# Altium integrated library Cypress Clocks & Buffers Clock Distribution.IntLib: 321 symbols (part 16 of 25)
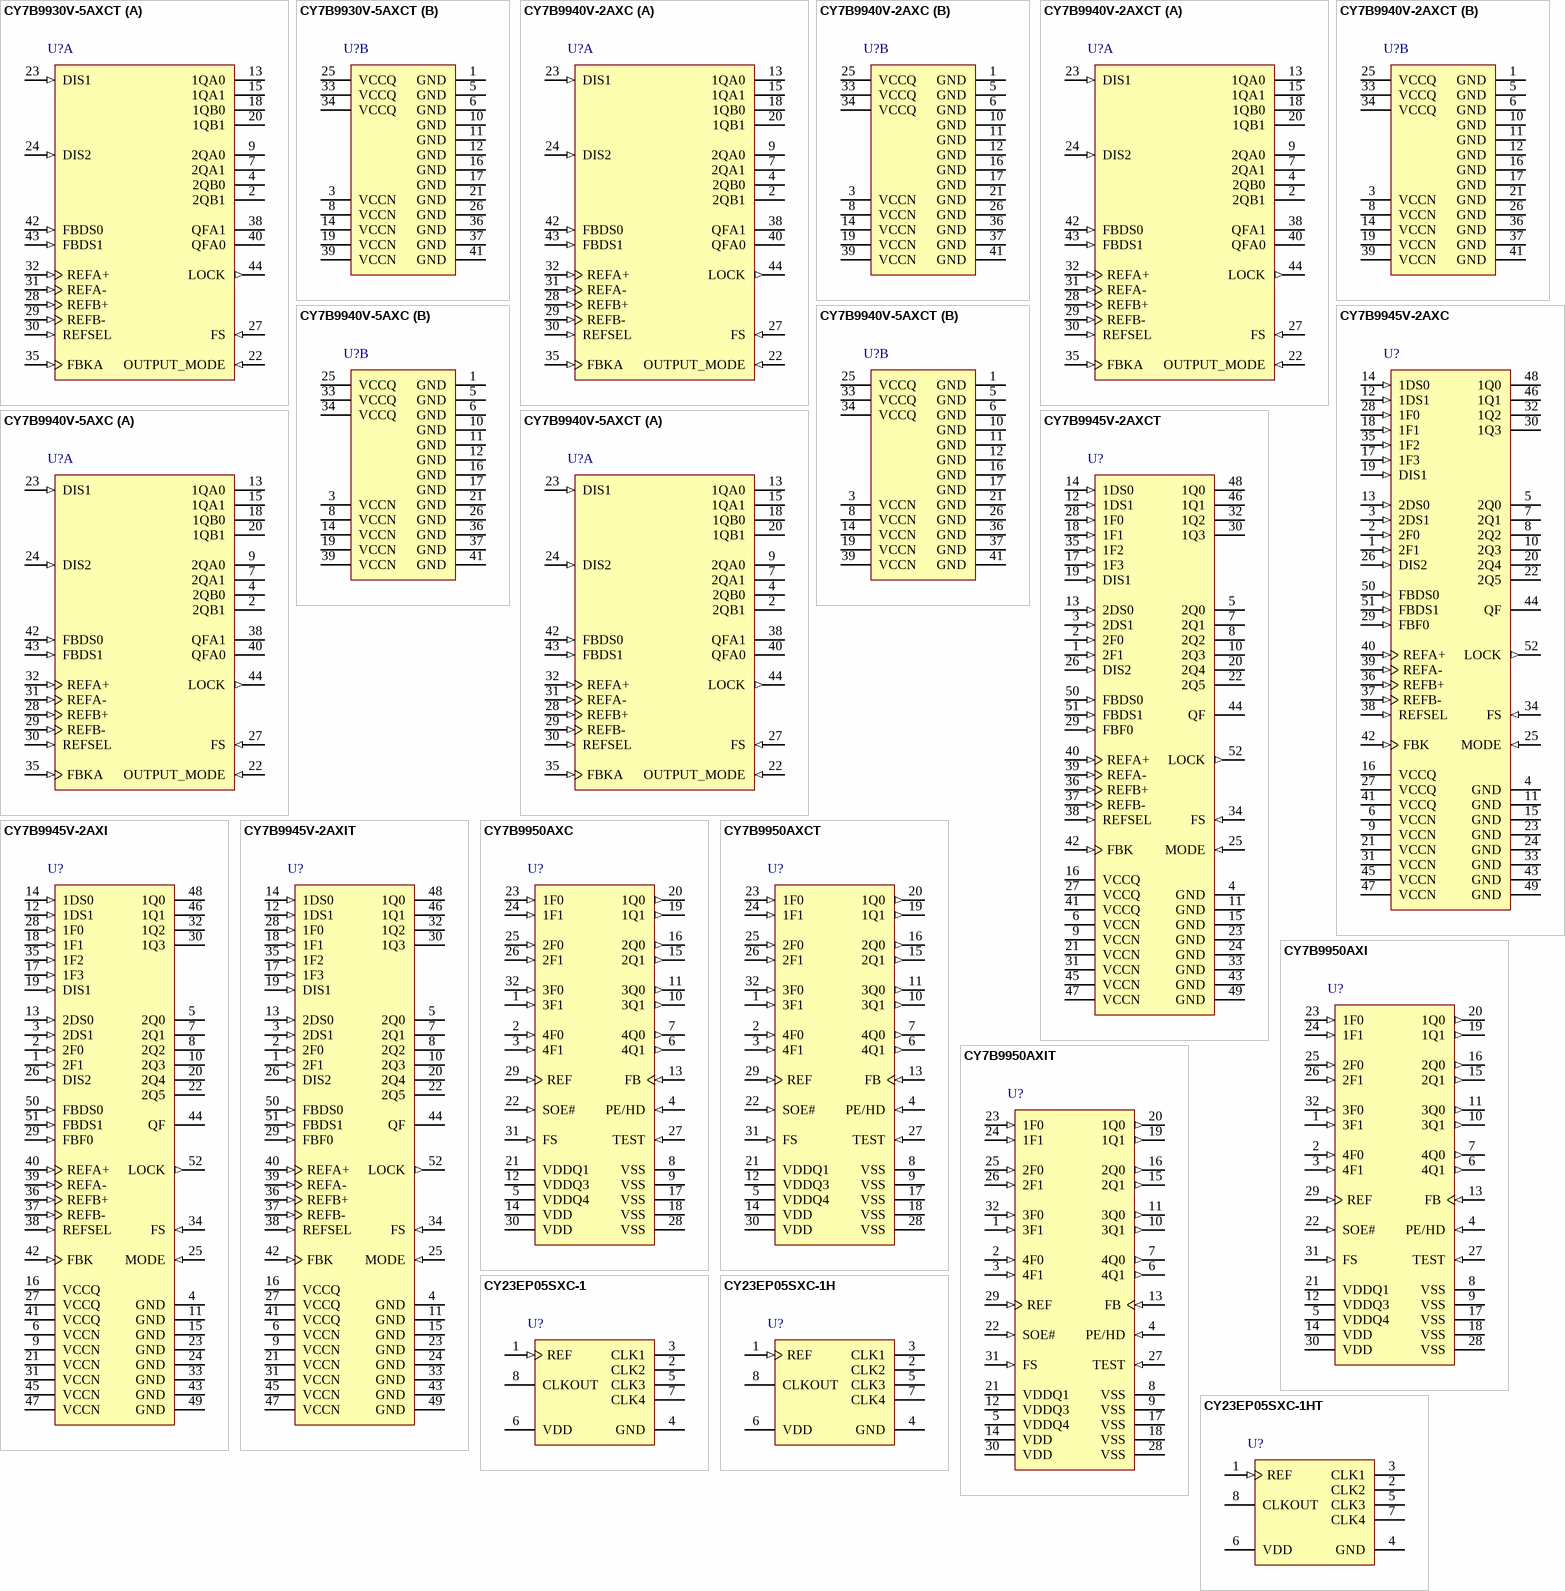
[diagram p31: symbols CY7B9930V-5AXCT to CY23EP05SXC-1HT]

## CY7B9945V-2AXCT
designator U?
High Speed Multi-Phase PLL Clock Buffer, 3.3 V, 11 Outputs, 24 to 200 MHz, 0 to 70 degC, 52-Pin TQFP (AX52), Tape and Reel; Manufacturer: Cypress; PartNumber: CY7B9945V-2AXCT; Input Frequency Max. (MHz): 200; Input Frequency Min. (MHz): 24; Max. Operating Voltage (V): 3.63; Min. Operating Voltage (V): 2.97; No. of Outputs: 11; DatasheetVersion: Rev. *K; PackageVersion: Rev. *C, 08/2012; PackageReference: AX52; PackageDescription: 52-Pin Thin Plastic Quad Flatpack, Body 10 x10 mm, Pitch 0.65 mm; Supplier 1: Digi-Key; Supplier Part Number 1: CY7B9945V-2AXCT-ND; Supplier 2: Mouser; Supplier Part Number 2: 727-CY7B9945V2AXCT; Max. Operating Temp. (degreesC): 70; Min. Operating Temp. (degreesC): 0; Output Frequency Max. (MHz): 200; Output Frequency Min. (MHz): 24; Packing: Tape and Reel; RoHS: Pb-Free; Mounting Technology: Surface Mount; ComponentLink1Description: Manufacturer URL; ComponentLink1URL: http://www.cypress.com/; ComponentLink2Description: Datasheet; ComponentLink2URL: http://www.cypress.com/?docID=48486; ComponentLink3Description: Package Specification; ComponentLink3URL: http://www.cypress.com/?docID=39099
footprint CYP-AX52-51-85131_N (QFP, 52-Leads, Body 10x10mm, Pitch 0.65mm, IPC Medium Density)
footprint CYP-AX52-51-85131_L (QFP, 52-Leads, Body 10x10mm, Pitch 0.65mm, IPC High Density)
footprint CYP-AX52-51-85131_M (QFP, 52-Leads, Body 10x10mm, Pitch 0.65mm, IPC Low Density)
pins: 1 2F1 (in) "Output Phase Function Select. Each pair determines the phase of the respective bank of outputs. See Table 3.", 2 2F0 (in) "Output Phase Function Select. Each pair determines the phase of the respective bank of outputs. See Table 3.", 3 2DS1 (in) "Output Divider Function Select. Each pair determines the divider ratio of the respective bank of outputs. See Table 4.", 4 GND (power) "Device Ground", 5 2Q0 (hiz) "Clock Outputs with Adjustable Phases and fNOM Divide Ratios. The output frequencies and phases are determined by [1:2]DS[0:1], and 1F[0:3] and 2F[0:1], respectively. See Table 3 and Table 4.", 6 VCCN (power) "Power Supply for the Output Buffers", 7 2Q1 (hiz) "Clock Outputs with Adjustable Phases and fNOM Divide Ratios. The output frequencies and phases are determined by [1:2]DS[0:1], and 1F[0:3] and 2F[0:1], respectively. See Table 3 and Table 4.", 8 2Q2 (hiz) "Clock Outputs with Adjustable Phases and fNOM Divide Ratios. The output frequencies and phases are determined by [1:2]DS[0:1], and 1F[0:3] and 2F[0:1], respectively. See Table 3 and Table 4.", 9 VCCN (power) "Power Supply for the Output Buffers", 10 2Q3 (hiz) "Clock Outputs with Adjustable Phases and fNOM Divide Ratios. The output frequencies and phases are determined by [1:2]DS[0:1], and 1F[0:3] and 2F[0:1], respectively. See Table 3 and Table 4.", 11 GND (power) "Device Ground", 12 1DS1 (in) "Output Divider Function Select. Each pair determines the divider ratio of the respective bank of outputs. See Table 4.", 13 2DS0 (in) "Output Divider Function Select. Each pair determines the divider ratio of the respective bank of outputs. See Table 4.", 14 1DS0 (in) "Output Divider Function Select. Each pair determines the divider ratio of the respective bank of outputs. See Table 4.", 15 GND (power) "Device Ground", 16 VCCQ (power) "Power Supply for the Internal Circuitry", 17 1F3 (in) "Output Phase Function Select. Each pair determines the phase of the respective bank of outputs. See Table 3.", 18 1F1 (in) "Output Phase Function Select. Each pair determines the phase of the respective bank of outputs. See Table 3.", 19 DIS1 (in) "Output Disable. Each input controls the state of the respective output bank. When HIGH, the output bank is disabled to HOLD-OFF or High-Z state; the disable state is determined by MODE. When LOW, outputs 1Q[0:3] and 2Q[0:5] (See Datasheet)", 20 2Q4 (hiz) "Clock Outputs with Adjustable Phases and fNOM Divide Ratios. The output frequencies and phases are determined by [1:2]DS[0:1], and 1F[0:3] and 2F[0:1], respectively. See Table 3 and Table 4.", 21 VCCN (power) "Power Supply for the Output Buffers", 22 2Q5 (hiz) "Clock Outputs with Adjustable Phases and fNOM Divide Ratios. The output frequencies and phases are determined by [1:2]DS[0:1], and 1F[0:3] and 2F[0:1], respectively. See Table 3 and Table 4.", 23 GND (power) "Device Ground", 24 GND (power) "Device Ground", 25 MODE (in) "This pin determines the clock outputs’ disable state. When this input is HIGH, the clock outputs disables to high impedance state (High-Z). When this input is LOW, the clock outputs disables to HOLD-OFF mode. When in MID(See Datasheet)", 26 DIS2 (in) "Output Disable. Each input controls the state of the respective output bank. When HIGH, the output bank is disabled to HOLD-OFF or High-Z state; the disable state is determined by MODE. When LOW, outputs 1Q[0:3] and 2Q[0:5] (See Datasheet)", 27 VCCQ (power) "Power Supply for the Internal Circuitry", 28 1F0 (in) "Output Phase Function Select. Each pair determines the phase of the respective bank of outputs. See Table 3.", 29 FBF0 (in) "Feedback Output Phase Function Select. This input determines the phase of the QF output. See Table 3.", 30 1Q3 (hiz) "Clock Outputs with Adjustable Phases and fNOM Divide Ratios. The output frequencies and phases are determined by [1:2]DS[0:1], and 1F[0:3] and 2F[0:1], respectively. See Table 3 and Table 4.", 31 VCCN (power) "Power Supply for the Output Buffers", 32 1Q2 (hiz) "Clock Outputs with Adjustable Phases and fNOM Divide Ratios. The output frequencies and phases are determined by [1:2]DS[0:1], and 1F[0:3] and 2F[0:1], respectively. See Table 3 and Table 4.", 33 GND (power) "Device Ground", 34 FS (in) "Frequency Select. This input must be set according to the nominal frequency (fNOM). See Table 1.", 35 1F2 (in) "Output Phase Function Select. Each pair determines the phase of the respective bank of outputs. See Table 3.", 36 REFB+ (in) "Reference Inputs. These inputs can operate as differential PECL or single-ended TTL reference inputs to the PLL. When operating as a single-ended LVTTL input, the complementary input is left open.", 37 REFB- (in) "Reference Inputs. These inputs can operate as differential PECL or single-ended TTL reference inputs to the PLL. When operating as a single-ended LVTTL input, the complementary input is left open.", 38 REFSEL (in) "Reference Select Input. The REFSEL input controls the configuration of reference input When LOW, it uses the REFA pair as the reference input. When HIGH, it uses the REFB pair as the reference input. This input has an (See Datasheet)", 39 REFA- (in) "Reference Inputs. These inputs can operate as differential PECL or single-ended TTL reference inputs to the PLL. When operating as a single-ended LVTTL input, the complementary input is left open.", 40 REFA+ (in) "Reference Inputs. These inputs can operate as differential PECL or single-ended TTL reference inputs to the PLL. When operating as a single-ended LVTTL input, the complementary input is left open.", 41 VCCQ (power) "Power Supply for the Internal Circuitry", 42 FBK (in) "Feedback Input Clock. The PLL operates such that the rising edges of the reference and feedback signals are aligned in phase and frequency. This pin provides the clock output QF feedback to the phase detector.", 43 GND (power) "Device Ground", 44 QF (hiz) "Feedback Clock Output. This output is connected to the FBK input. The output frequency and phase are determined by FBDS[0:1] and FBF0, respectively. See Table 3 and Table 4.", 45 VCCN (power) "Power Supply for the Output Buffers", 46 1Q1 (hiz) "Clock Outputs with Adjustable Phases and fNOM Divide Ratios. The output frequencies and phases are determined by [1:2]DS[0:1], and 1F[0:3] and 2F[0:1], respectively. See Table 3 and Table 4.", 47 VCCN (power) "Power Supply for the Output Buffers", 48 1Q0 (hiz) "Clock Outputs with Adjustable Phases and fNOM Divide Ratios. The output frequencies and phases are determined by [1:2]DS[0:1], and 1F[0:3] and 2F[0:1], respectively. See Table 3 and Table 4.", 49 GND (power) "Device Ground", 50 FBDS0 (in) "Feedback Output Divider Function Select. This input determines the divider ratio of the QF output. See Table 4.", 51 FBDS1 (in) "Feedback Output Divider Function Select. This input determines the divider ratio of the QF output. See Table 4.", 52 LOCK (out) "PLL Lock Indicator. When HIGH, this output indicates that the internal PLL is locked to the reference signal. When LOW, it indicates that the PLL is attempting to acquire lock"

## CY7B9945V-2AXI
designator U?
High Speed Multi-Phase PLL Clock Buffer, 3.3 V, 11 Outputs, 24 to 200 MHz, -40 to 85 degC, 52-Pin TQFP (AX52), Tube; Manufacturer: Cypress; PartNumber: CY7B9945V-2AXI; Input Frequency Max. (MHz): 200; Input Frequency Min. (MHz): 24; Max. Operating Voltage (V): 3.63; Min. Operating Voltage (V): 2.97; No. of Outputs: 11; DatasheetVersion: Rev. *K; PackageVersion: Rev. *C, 08/2012; PackageReference: AX52; PackageDescription: 52-Pin Thin Plastic Quad Flatpack, Body 10 x10 mm, Pitch 0.65 mm; Supplier 1: Digi-Key; Supplier Part Number 1: 428-2247-ND; Supplier 2: Newark; Supplier Part Number 2: 53M3521; Supplier 3: Mouser; Supplier Part Number 3: 727-CY7B9945V-2AXI; Max. Operating Temp. (degreesC): 85; Min. Operating Temp. (degreesC): -40; Output Frequency Max. (MHz): 200; Output Frequency Min. (MHz): 24; Packing: Tube; RoHS: Pb-Free; Mounting Technology: Surface Mount; ComponentLink1Description: Manufacturer URL; ComponentLink1URL: http://www.cypress.com/; ComponentLink2Description: Datasheet; ComponentLink2URL: http://www.cypress.com/?docID=48486; ComponentLink3Description: Package Specification; ComponentLink3URL: http://www.cypress.com/?docID=39099
footprint CYP-AX52-51-85131_N (QFP, 52-Leads, Body 10x10mm, Pitch 0.65mm, IPC Medium Density)
footprint CYP-AX52-51-85131_L (QFP, 52-Leads, Body 10x10mm, Pitch 0.65mm, IPC High Density)
footprint CYP-AX52-51-85131_M (QFP, 52-Leads, Body 10x10mm, Pitch 0.65mm, IPC Low Density)
pins: 1 2F1 (in) "Output Phase Function Select. Each pair determines the phase of the respective bank of outputs. See Table 3.", 2 2F0 (in) "Output Phase Function Select. Each pair determines the phase of the respective bank of outputs. See Table 3.", 3 2DS1 (in) "Output Divider Function Select. Each pair determines the divider ratio of the respective bank of outputs. See Table 4.", 4 GND (power) "Device Ground", 5 2Q0 (hiz) "Clock Outputs with Adjustable Phases and fNOM Divide Ratios. The output frequencies and phases are determined by [1:2]DS[0:1], and 1F[0:3] and 2F[0:1], respectively. See Table 3 and Table 4.", 6 VCCN (power) "Power Supply for the Output Buffers", 7 2Q1 (hiz) "Clock Outputs with Adjustable Phases and fNOM Divide Ratios. The output frequencies and phases are determined by [1:2]DS[0:1], and 1F[0:3] and 2F[0:1], respectively. See Table 3 and Table 4.", 8 2Q2 (hiz) "Clock Outputs with Adjustable Phases and fNOM Divide Ratios. The output frequencies and phases are determined by [1:2]DS[0:1], and 1F[0:3] and 2F[0:1], respectively. See Table 3 and Table 4.", 9 VCCN (power) "Power Supply for the Output Buffers", 10 2Q3 (hiz) "Clock Outputs with Adjustable Phases and fNOM Divide Ratios. The output frequencies and phases are determined by [1:2]DS[0:1], and 1F[0:3] and 2F[0:1], respectively. See Table 3 and Table 4.", 11 GND (power) "Device Ground", 12 1DS1 (in) "Output Divider Function Select. Each pair determines the divider ratio of the respective bank of outputs. See Table 4.", 13 2DS0 (in) "Output Divider Function Select. Each pair determines the divider ratio of the respective bank of outputs. See Table 4.", 14 1DS0 (in) "Output Divider Function Select. Each pair determines the divider ratio of the respective bank of outputs. See Table 4.", 15 GND (power) "Device Ground", 16 VCCQ (power) "Power Supply for the Internal Circuitry", 17 1F3 (in) "Output Phase Function Select. Each pair determines the phase of the respective bank of outputs. See Table 3.", 18 1F1 (in) "Output Phase Function Select. Each pair determines the phase of the respective bank of outputs. See Table 3.", 19 DIS1 (in) "Output Disable. Each input controls the state of the respective output bank. When HIGH, the output bank is disabled to HOLD-OFF or High-Z state; the disable state is determined by MODE. When LOW, outputs 1Q[0:3] and 2Q[0:5] (See Datasheet)", 20 2Q4 (hiz) "Clock Outputs with Adjustable Phases and fNOM Divide Ratios. The output frequencies and phases are determined by [1:2]DS[0:1], and 1F[0:3] and 2F[0:1], respectively. See Table 3 and Table 4.", 21 VCCN (power) "Power Supply for the Output Buffers", 22 2Q5 (hiz) "Clock Outputs with Adjustable Phases and fNOM Divide Ratios. The output frequencies and phases are determined by [1:2]DS[0:1], and 1F[0:3] and 2F[0:1], respectively. See Table 3 and Table 4.", 23 GND (power) "Device Ground", 24 GND (power) "Device Ground", 25 MODE (in) "This pin determines the clock outputs’ disable state. When this input is HIGH, the clock outputs disables to high impedance state (High-Z). When this input is LOW, the clock outputs disables to HOLD-OFF mode. When in MID(See Datasheet)", 26 DIS2 (in) "Output Disable. Each input controls the state of the respective output bank. When HIGH, the output bank is disabled to HOLD-OFF or High-Z state; the disable state is determined by MODE. When LOW, outputs 1Q[0:3] and 2Q[0:5] (See Datasheet)", 27 VCCQ (power) "Power Supply for the Internal Circuitry", 28 1F0 (in) "Output Phase Function Select. Each pair determines the phase of the respective bank of outputs. See Table 3.", 29 FBF0 (in) "Feedback Output Phase Function Select. This input determines the phase of the QF output. See Table 3.", 30 1Q3 (hiz) "Clock Outputs with Adjustable Phases and fNOM Divide Ratios. The output frequencies and phases are determined by [1:2]DS[0:1], and 1F[0:3] and 2F[0:1], respectively. See Table 3 and Table 4.", 31 VCCN (power) "Power Supply for the Output Buffers", 32 1Q2 (hiz) "Clock Outputs with Adjustable Phases and fNOM Divide Ratios. The output frequencies and phases are determined by [1:2]DS[0:1], and 1F[0:3] and 2F[0:1], respectively. See Table 3 and Table 4.", 33 GND (power) "Device Ground", 34 FS (in) "Frequency Select. This input must be set according to the nominal frequency (fNOM). See Table 1.", 35 1F2 (in) "Output Phase Function Select. Each pair determines the phase of the respective bank of outputs. See Table 3.", 36 REFB+ (in) "Reference Inputs. These inputs can operate as differential PECL or single-ended TTL reference inputs to the PLL. When operating as a single-ended LVTTL input, the complementary input is left open.", 37 REFB- (in) "Reference Inputs. These inputs can operate as differential PECL or single-ended TTL reference inputs to the PLL. When operating as a single-ended LVTTL input, the complementary input is left open.", 38 REFSEL (in) "Reference Select Input. The REFSEL input controls the configuration of reference input When LOW, it uses the REFA pair as the reference input. When HIGH, it uses the REFB pair as the reference input. This input has an (See Datasheet)", 39 REFA- (in) "Reference Inputs. These inputs can operate as differential PECL or single-ended TTL reference inputs to the PLL. When operating as a single-ended LVTTL input, the complementary input is left open.", 40 REFA+ (in) "Reference Inputs. These inputs can operate as differential PECL or single-ended TTL reference inputs to the PLL. When operating as a single-ended LVTTL input, the complementary input is left open.", 41 VCCQ (power) "Power Supply for the Internal Circuitry", 42 FBK (in) "Feedback Input Clock. The PLL operates such that the rising edges of the reference and feedback signals are aligned in phase and frequency. This pin provides the clock output QF feedback to the phase detector.", 43 GND (power) "Device Ground", 44 QF (hiz) "Feedback Clock Output. This output is connected to the FBK input. The output frequency and phase are determined by FBDS[0:1] and FBF0, respectively. See Table 3 and Table 4.", 45 VCCN (power) "Power Supply for the Output Buffers", 46 1Q1 (hiz) "Clock Outputs with Adjustable Phases and fNOM Divide Ratios. The output frequencies and phases are determined by [1:2]DS[0:1], and 1F[0:3] and 2F[0:1], respectively. See Table 3 and Table 4.", 47 VCCN (power) "Power Supply for the Output Buffers", 48 1Q0 (hiz) "Clock Outputs with Adjustable Phases and fNOM Divide Ratios. The output frequencies and phases are determined by [1:2]DS[0:1], and 1F[0:3] and 2F[0:1], respectively. See Table 3 and Table 4.", 49 GND (power) "Device Ground", 50 FBDS0 (in) "Feedback Output Divider Function Select. This input determines the divider ratio of the QF output. See Table 4.", 51 FBDS1 (in) "Feedback Output Divider Function Select. This input determines the divider ratio of the QF output. See Table 4.", 52 LOCK (out) "PLL Lock Indicator. When HIGH, this output indicates that the internal PLL is locked to the reference signal. When LOW, it indicates that the PLL is attempting to acquire lock"

## CY7B9945V-2AXIT
designator U?
High Speed Multi-Phase PLL Clock Buffer, 3.3 V, 11 Outputs, 24 to 200 MHz, -40 to 85 degC, 52-Pin TQFP (AX52), Tape and Reel; Manufacturer: Cypress; PartNumber: CY7B9945V-2AXIT; Input Frequency Max. (MHz): 200; Input Frequency Min. (MHz): 24; Max. Operating Voltage (V): 3.63; Min. Operating Voltage (V): 2.97; No. of Outputs: 11; DatasheetVersion: Rev. *K; PackageVersion: Rev. *C, 08/2012; PackageReference: AX52; PackageDescription: 52-Pin Thin Plastic Quad Flatpack, Body 10 x10 mm, Pitch 0.65 mm; Supplier 1: Digi-Key; Supplier Part Number 1: CY7B9945V-2AXIT-ND; Supplier 2: Mouser; Supplier Part Number 2: 727-CY7B9945V2AXIT; Max. Operating Temp. (degreesC): 85; Min. Operating Temp. (degreesC): -40; Output Frequency Max. (MHz): 200; Output Frequency Min. (MHz): 24; Packing: Tape and Reel; RoHS: Pb-Free; Mounting Technology: Surface Mount; ComponentLink1Description: Manufacturer URL; ComponentLink1URL: http://www.cypress.com/; ComponentLink2Description: Datasheet; ComponentLink2URL: http://www.cypress.com/?docID=48486; ComponentLink3Description: Package Specification; ComponentLink3URL: http://www.cypress.com/?docID=39099
footprint CYP-AX52-51-85131_N (QFP, 52-Leads, Body 10x10mm, Pitch 0.65mm, IPC Medium Density)
footprint CYP-AX52-51-85131_L (QFP, 52-Leads, Body 10x10mm, Pitch 0.65mm, IPC High Density)
footprint CYP-AX52-51-85131_M (QFP, 52-Leads, Body 10x10mm, Pitch 0.65mm, IPC Low Density)
pins: 1 2F1 (in) "Output Phase Function Select. Each pair determines the phase of the respective bank of outputs. See Table 3.", 2 2F0 (in) "Output Phase Function Select. Each pair determines the phase of the respective bank of outputs. See Table 3.", 3 2DS1 (in) "Output Divider Function Select. Each pair determines the divider ratio of the respective bank of outputs. See Table 4.", 4 GND (power) "Device Ground", 5 2Q0 (hiz) "Clock Outputs with Adjustable Phases and fNOM Divide Ratios. The output frequencies and phases are determined by [1:2]DS[0:1], and 1F[0:3] and 2F[0:1], respectively. See Table 3 and Table 4.", 6 VCCN (power) "Power Supply for the Output Buffers", 7 2Q1 (hiz) "Clock Outputs with Adjustable Phases and fNOM Divide Ratios. The output frequencies and phases are determined by [1:2]DS[0:1], and 1F[0:3] and 2F[0:1], respectively. See Table 3 and Table 4.", 8 2Q2 (hiz) "Clock Outputs with Adjustable Phases and fNOM Divide Ratios. The output frequencies and phases are determined by [1:2]DS[0:1], and 1F[0:3] and 2F[0:1], respectively. See Table 3 and Table 4.", 9 VCCN (power) "Power Supply for the Output Buffers", 10 2Q3 (hiz) "Clock Outputs with Adjustable Phases and fNOM Divide Ratios. The output frequencies and phases are determined by [1:2]DS[0:1], and 1F[0:3] and 2F[0:1], respectively. See Table 3 and Table 4.", 11 GND (power) "Device Ground", 12 1DS1 (in) "Output Divider Function Select. Each pair determines the divider ratio of the respective bank of outputs. See Table 4.", 13 2DS0 (in) "Output Divider Function Select. Each pair determines the divider ratio of the respective bank of outputs. See Table 4.", 14 1DS0 (in) "Output Divider Function Select. Each pair determines the divider ratio of the respective bank of outputs. See Table 4.", 15 GND (power) "Device Ground", 16 VCCQ (power) "Power Supply for the Internal Circuitry", 17 1F3 (in) "Output Phase Function Select. Each pair determines the phase of the respective bank of outputs. See Table 3.", 18 1F1 (in) "Output Phase Function Select. Each pair determines the phase of the respective bank of outputs. See Table 3.", 19 DIS1 (in) "Output Disable. Each input controls the state of the respective output bank. When HIGH, the output bank is disabled to HOLD-OFF or High-Z state; the disable state is determined by MODE. When LOW, outputs 1Q[0:3] and 2Q[0:5] (See Datasheet)", 20 2Q4 (hiz) "Clock Outputs with Adjustable Phases and fNOM Divide Ratios. The output frequencies and phases are determined by [1:2]DS[0:1], and 1F[0:3] and 2F[0:1], respectively. See Table 3 and Table 4.", 21 VCCN (power) "Power Supply for the Output Buffers", 22 2Q5 (hiz) "Clock Outputs with Adjustable Phases and fNOM Divide Ratios. The output frequencies and phases are determined by [1:2]DS[0:1], and 1F[0:3] and 2F[0:1], respectively. See Table 3 and Table 4.", 23 GND (power) "Device Ground", 24 GND (power) "Device Ground", 25 MODE (in) "This pin determines the clock outputs’ disable state. When this input is HIGH, the clock outputs disables to high impedance state (High-Z). When this input is LOW, the clock outputs disables to HOLD-OFF mode. When in MID(See Datasheet)", 26 DIS2 (in) "Output Disable. Each input controls the state of the respective output bank. When HIGH, the output bank is disabled to HOLD-OFF or High-Z state; the disable state is determined by MODE. When LOW, outputs 1Q[0:3] and 2Q[0:5] (See Datasheet)", 27 VCCQ (power) "Power Supply for the Internal Circuitry", 28 1F0 (in) "Output Phase Function Select. Each pair determines the phase of the respective bank of outputs. See Table 3.", 29 FBF0 (in) "Feedback Output Phase Function Select. This input determines the phase of the QF output. See Table 3.", 30 1Q3 (hiz) "Clock Outputs with Adjustable Phases and fNOM Divide Ratios. The output frequencies and phases are determined by [1:2]DS[0:1], and 1F[0:3] and 2F[0:1], respectively. See Table 3 and Table 4.", 31 VCCN (power) "Power Supply for the Output Buffers", 32 1Q2 (hiz) "Clock Outputs with Adjustable Phases and fNOM Divide Ratios. The output frequencies and phases are determined by [1:2]DS[0:1], and 1F[0:3] and 2F[0:1], respectively. See Table 3 and Table 4.", 33 GND (power) "Device Ground", 34 FS (in) "Frequency Select. This input must be set according to the nominal frequency (fNOM). See Table 1.", 35 1F2 (in) "Output Phase Function Select. Each pair determines the phase of the respective bank of outputs. See Table 3.", 36 REFB+ (in) "Reference Inputs. These inputs can operate as differential PECL or single-ended TTL reference inputs to the PLL. When operating as a single-ended LVTTL input, the complementary input is left open.", 37 REFB- (in) "Reference Inputs. These inputs can operate as differential PECL or single-ended TTL reference inputs to the PLL. When operating as a single-ended LVTTL input, the complementary input is left open.", 38 REFSEL (in) "Reference Select Input. The REFSEL input controls the configuration of reference input When LOW, it uses the REFA pair as the reference input. When HIGH, it uses the REFB pair as the reference input. This input has an (See Datasheet)", 39 REFA- (in) "Reference Inputs. These inputs can operate as differential PECL or single-ended TTL reference inputs to the PLL. When operating as a single-ended LVTTL input, the complementary input is left open.", 40 REFA+ (in) "Reference Inputs. These inputs can operate as differential PECL or single-ended TTL reference inputs to the PLL. When operating as a single-ended LVTTL input, the complementary input is left open.", 41 VCCQ (power) "Power Supply for the Internal Circuitry", 42 FBK (in) "Feedback Input Clock. The PLL operates such that the rising edges of the reference and feedback signals are aligned in phase and frequency. This pin provides the clock output QF feedback to the phase detector.", 43 GND (power) "Device Ground", 44 QF (hiz) "Feedback Clock Output. This output is connected to the FBK input. The output frequency and phase are determined by FBDS[0:1] and FBF0, respectively. See Table 3 and Table 4.", 45 VCCN (power) "Power Supply for the Output Buffers", 46 1Q1 (hiz) "Clock Outputs with Adjustable Phases and fNOM Divide Ratios. The output frequencies and phases are determined by [1:2]DS[0:1], and 1F[0:3] and 2F[0:1], respectively. See Table 3 and Table 4.", 47 VCCN (power) "Power Supply for the Output Buffers", 48 1Q0 (hiz) "Clock Outputs with Adjustable Phases and fNOM Divide Ratios. The output frequencies and phases are determined by [1:2]DS[0:1], and 1F[0:3] and 2F[0:1], respectively. See Table 3 and Table 4.", 49 GND (power) "Device Ground", 50 FBDS0 (in) "Feedback Output Divider Function Select. This input determines the divider ratio of the QF output. See Table 4.", 51 FBDS1 (in) "Feedback Output Divider Function Select. This input determines the divider ratio of the QF output. See Table 4.", 52 LOCK (out) "PLL Lock Indicator. When HIGH, this output indicates that the internal PLL is locked to the reference signal. When LOW, it indicates that the PLL is attempting to acquire lock"

## CY7B9950AXC
designator U?
High-Speed Multi-Phase PLL Clock Buffer, 2.5 / 3.3 V, 8 Outputs, 6 to 200 MHz, 0 to 70 degC, 32-Pin TQFP (AX32), Tube; Manufacturer: Cypress; PartNumber: CY7B9950AXC; Input Frequency Max. (MHz): 200; Input Frequency Min. (MHz): 6; Max. Operating Voltage (V): 3.63; Min. Operating Voltage (V): 2.375; No. of Outputs: 8; DatasheetVersion: Rev. *G; PackageVersion: Rev. *D, 07/2011; PackageReference: AX32; PackageDescription: 32-Pin Thin Plastic Quad Flatpack, Body 7 x 7 mm, Pitch 0.8 mm; Supplier 1: Digi-Key; Supplier Part Number 1: 428-2250-ND; Supplier 2: Mouser; Supplier Part Number 2: 727-CY7B9950AXC; Max. Operating Temp. (degreesC): 70; Min. Operating Temp. (degreesC): 0; Output Frequency Max. (MHz): 200; Output Frequency Min. (MHz): 6; Packing: Tube; RoHS: Pb-Free; Mounting Technology: Surface Mount; ComponentLink1Description: Manufacturer URL; ComponentLink1URL: http://www.cypress.com/; ComponentLink2Description: Datasheet; ComponentLink2URL: http://www.cypress.com/?docID=46780; ComponentLink3Description: Package Specification; ComponentLink3URL: http://www.cypress.com/?docID=39155
footprint CYP-AX32-51-85063_N (QFP, 32-Leads, Body 7x7mm, Pitch 0.8mm, IPC Medium Density)
footprint CYP-AX32-51-85063_L (QFP, 32-Leads, Body 7x7mm, Pitch 0.8mm, IPC High Density)
footprint CYP-AX32-51-85063_M (QFP, 32-Leads, Body 7x7mm, Pitch 0.8mm, IPC Low Density)
pins: 1 3F1 (in) "Select frequency and phase of the outputs (see Table 1, Table 2, Table 3 on page 5, Table 4 on page 5, and Table 5 on page 5).", 2 4F0 (in) "Select frequency and phase of the outputs (see Table 1, Table 2, Table 3 on page 5, Table 4 on page 5, and Table 5 on page 5).", 3 4F1 (in) "Select frequency and phase of the outputs (see Table 1, Table 2, Table 3 on page 5, Table 4 on page 5, and Table 5 on page 5).", 4 PE/HD (in) "Selects Positive or Negative Edge Control, and High or Low output Drive Strength. When LOW/HIGH, the outputs are synchronized with the negative/positive edge of the reference clock respectively. When at MID level, the output (See Datasheet)", 5 VDDQ4 (power) "Power supply for Bank 4 output buffers (see Table 7 on page 5 for supply level", 6 4Q1 (out) "Four banks of two outputs (see Table 1, Table 2, and Table 3 on page 5)", 7 4Q0 (out) "Four banks of two outputs (see Table 1, Table 2, and Table 3 on page 5)", 8 VSS (power) "Ground", 9 VSS (power) "Ground", 10 3Q1 (out) "Four banks of two outputs (see Table 1, Table 2, and Table 3 on page 5)", 11 3Q0 (out) "Four banks of two outputs (see Table 1, Table 2, and Table 3 on page 5)", 12 VDDQ3 (power) "Power supply for Bank 3 output buffers (see Table 7 on page 5 for supply level constraints).", 13 FB (in) "Feedback input.", 14 VDD (power) "Power supply for internal circuitry (see Table 7 on page 5 for supply level constraints).", 15 2Q1 (out) "Four banks of two outputs (see Table 1, Table 2, and Table 3 on page 5)", 16 2Q0 (out) "Four banks of two outputs (see Table 1, Table 2, and Table 3 on page 5)", 17 VSS (power) "Ground", 18 VSS (power) "Ground", 19 1Q1 (out) "Four banks of two outputs (see Table 1, Table 2, and Table 3 on page 5)", 20 1Q0 (out) "Four banks of two outputs (see Table 1, Table 2, and Table 3 on page 5)", 21 VDDQ1 (power) "Power supply for Bank 1 and Bank 2 output buffers (see Table 7 on page 5 for supply level constraints).", 22 SOE# (in) "Synchronous output enable. When HIGH, it stops clock outputs (except 2Q0 and 2Q1) in a Low state (for PE = H or M) - 2Q0, and 2Q1 may be used as the feedback signal to maintain phase lock. When test is held at MID level and (See Datasheet)", 23 1F0 (in) "Select frequency and phase of the outputs (see Table 1, Table 2, Table 3 on page 5, Table 4 on page 5, and Table 5 on page 5).", 24 1F1 (in) "Select frequency and phase of the outputs (see Table 1, Table 2, Table 3 on page 5, Table 4 on page 5, and Table 5 on page 5).", 25 2F0 (in) "Select frequency and phase of the outputs (see Table 1, Table 2, Table 3 on page 5, Table 4 on page 5, and Table 5 on page 5).", 26 2F1 (in) "Select frequency and phase of the outputs (see Table 1, Table 2, Table 3 on page 5, Table 4 on page 5, and Table 5 on page 5).", 27 TEST (in) "When MID or HIGH, disables PLL[2]. REF goes to outputs of Bank 1 and Bank 2. REF also goes to outputs of Bank 3 and Bank 4 through output dividers K and M. Set LOW for normal operation.", 28 VSS (power) "Ground", 29 REF (in) "Reference clock input", 30 VDD (power) "Power supply for internal circuitry (see Table 7 on page 5 for supply level constraints).", 31 FS (in) "Selects VCO operating frequency range (see Table 4 on page 5)", 32 3F0 (in) "Select frequency and phase of the outputs (see Table 1, Table 2, Table 3 on page 5, Table 4 on page 5, and Table 5 on page 5)."

## CY7B9950AXCT
designator U?
High-Speed Multi-Phase PLL Clock Buffer, 2.5 / 3.3 V, 8 Outputs, 6 to 200 MHz, 0 to 70 degC, 32-Pin TQFP (AX32), Tape and Reel; Manufacturer: Cypress; PartNumber: CY7B9950AXCT; Input Frequency Max. (MHz): 200; Input Frequency Min. (MHz): 6; Max. Operating Voltage (V): 3.63; Min. Operating Voltage (V): 2.375; No. of Outputs: 8; DatasheetVersion: Rev. *G; PackageVersion: Rev. *D, 07/2011; PackageReference: AX32; PackageDescription: 32-Pin Thin Plastic Quad Flatpack, Body 7 x 7 mm, Pitch 0.8 mm; Supplier 1: Digi-Key; Supplier Part Number 1: CY7B9950AXCT-ND; Supplier 2: Mouser; Supplier Part Number 2: 727-CY7B9950AXCT; Max. Operating Temp. (degreesC): 70; Min. Operating Temp. (degreesC): 0; Output Frequency Max. (MHz): 200; Output Frequency Min. (MHz): 6; Packing: Tape and Reel; RoHS: Pb-Free; Mounting Technology: Surface Mount; ComponentLink1Description: Manufacturer URL; ComponentLink1URL: http://www.cypress.com/; ComponentLink2Description: Datasheet; ComponentLink2URL: http://www.cypress.com/?docID=46780; ComponentLink3Description: Package Specification; ComponentLink3URL: http://www.cypress.com/?docID=39155
footprint CYP-AX32-51-85063_N (QFP, 32-Leads, Body 7x7mm, Pitch 0.8mm, IPC Medium Density)
footprint CYP-AX32-51-85063_L (QFP, 32-Leads, Body 7x7mm, Pitch 0.8mm, IPC High Density)
footprint CYP-AX32-51-85063_M (QFP, 32-Leads, Body 7x7mm, Pitch 0.8mm, IPC Low Density)
pins: 1 3F1 (in) "Select frequency and phase of the outputs (see Table 1, Table 2, Table 3 on page 5, Table 4 on page 5, and Table 5 on page 5).", 2 4F0 (in) "Select frequency and phase of the outputs (see Table 1, Table 2, Table 3 on page 5, Table 4 on page 5, and Table 5 on page 5).", 3 4F1 (in) "Select frequency and phase of the outputs (see Table 1, Table 2, Table 3 on page 5, Table 4 on page 5, and Table 5 on page 5).", 4 PE/HD (in) "Selects Positive or Negative Edge Control, and High or Low output Drive Strength. When LOW/HIGH, the outputs are synchronized with the negative/positive edge of the reference clock respectively. When at MID level, the output (See Datasheet)", 5 VDDQ4 (power) "Power supply for Bank 4 output buffers (see Table 7 on page 5 for supply level", 6 4Q1 (out) "Four banks of two outputs (see Table 1, Table 2, and Table 3 on page 5)", 7 4Q0 (out) "Four banks of two outputs (see Table 1, Table 2, and Table 3 on page 5)", 8 VSS (power) "Ground", 9 VSS (power) "Ground", 10 3Q1 (out) "Four banks of two outputs (see Table 1, Table 2, and Table 3 on page 5)", 11 3Q0 (out) "Four banks of two outputs (see Table 1, Table 2, and Table 3 on page 5)", 12 VDDQ3 (power) "Power supply for Bank 3 output buffers (see Table 7 on page 5 for supply level constraints).", 13 FB (in) "Feedback input.", 14 VDD (power) "Power supply for internal circuitry (see Table 7 on page 5 for supply level constraints).", 15 2Q1 (out) "Four banks of two outputs (see Table 1, Table 2, and Table 3 on page 5)", 16 2Q0 (out) "Four banks of two outputs (see Table 1, Table 2, and Table 3 on page 5)", 17 VSS (power) "Ground", 18 VSS (power) "Ground", 19 1Q1 (out) "Four banks of two outputs (see Table 1, Table 2, and Table 3 on page 5)", 20 1Q0 (out) "Four banks of two outputs (see Table 1, Table 2, and Table 3 on page 5)", 21 VDDQ1 (power) "Power supply for Bank 1 and Bank 2 output buffers (see Table 7 on page 5 for supply level constraints).", 22 SOE# (in) "Synchronous output enable. When HIGH, it stops clock outputs (except 2Q0 and 2Q1) in a Low state (for PE = H or M) - 2Q0, and 2Q1 may be used as the feedback signal to maintain phase lock. When test is held at MID level and (See Datasheet)", 23 1F0 (in) "Select frequency and phase of the outputs (see Table 1, Table 2, Table 3 on page 5, Table 4 on page 5, and Table 5 on page 5).", 24 1F1 (in) "Select frequency and phase of the outputs (see Table 1, Table 2, Table 3 on page 5, Table 4 on page 5, and Table 5 on page 5).", 25 2F0 (in) "Select frequency and phase of the outputs (see Table 1, Table 2, Table 3 on page 5, Table 4 on page 5, and Table 5 on page 5).", 26 2F1 (in) "Select frequency and phase of the outputs (see Table 1, Table 2, Table 3 on page 5, Table 4 on page 5, and Table 5 on page 5).", 27 TEST (in) "When MID or HIGH, disables PLL[2]. REF goes to outputs of Bank 1 and Bank 2. REF also goes to outputs of Bank 3 and Bank 4 through output dividers K and M. Set LOW for normal operation.", 28 VSS (power) "Ground", 29 REF (in) "Reference clock input", 30 VDD (power) "Power supply for internal circuitry (see Table 7 on page 5 for supply level constraints).", 31 FS (in) "Selects VCO operating frequency range (see Table 4 on page 5)", 32 3F0 (in) "Select frequency and phase of the outputs (see Table 1, Table 2, Table 3 on page 5, Table 4 on page 5, and Table 5 on page 5)."

## CY7B9950AXI
designator U?
High-Speed Multi-Phase PLL Clock Buffer, 2.5 / 3.3 V, 8 Outputs, 6 to 200 MHz, -40 to 85 degC, 32-Pin TQFP (AX32), Tube; Manufacturer: Cypress; PartNumber: CY7B9950AXI; Input Frequency Max. (MHz): 200; Input Frequency Min. (MHz): 6; Max. Operating Voltage (V): 3.63; Min. Operating Voltage (V): 2.375; No. of Outputs: 8; DatasheetVersion: Rev. *G; PackageVersion: Rev. *D, 07/2011; PackageReference: AX32; PackageDescription: 32-Pin Thin Plastic Quad Flatpack, Body 7 x 7 mm, Pitch 0.8 mm; Supplier 1: Digi-Key; Supplier Part Number 1: CY7B9950AXI-ND; Supplier 2: Mouser; Supplier Part Number 2: 727-CY7B9950AXI; Max. Operating Temp. (degreesC): 85; Min. Operating Temp. (degreesC): -40; Output Frequency Max. (MHz): 200; Output Frequency Min. (MHz): 6; Packing: Tube; RoHS: Pb-Free; Mounting Technology: Surface Mount; ComponentLink1Description: Manufacturer URL; ComponentLink1URL: http://www.cypress.com/; ComponentLink2Description: Datasheet; ComponentLink2URL: http://www.cypress.com/?docID=46780; ComponentLink3Description: Package Specification; ComponentLink3URL: http://www.cypress.com/?docID=39155
footprint CYP-AX32-51-85063_N (QFP, 32-Leads, Body 7x7mm, Pitch 0.8mm, IPC Medium Density)
footprint CYP-AX32-51-85063_L (QFP, 32-Leads, Body 7x7mm, Pitch 0.8mm, IPC High Density)
footprint CYP-AX32-51-85063_M (QFP, 32-Leads, Body 7x7mm, Pitch 0.8mm, IPC Low Density)
pins: 1 3F1 (in) "Select frequency and phase of the outputs (see Table 1, Table 2, Table 3 on page 5, Table 4 on page 5, and Table 5 on page 5).", 2 4F0 (in) "Select frequency and phase of the outputs (see Table 1, Table 2, Table 3 on page 5, Table 4 on page 5, and Table 5 on page 5).", 3 4F1 (in) "Select frequency and phase of the outputs (see Table 1, Table 2, Table 3 on page 5, Table 4 on page 5, and Table 5 on page 5).", 4 PE/HD (in) "Selects Positive or Negative Edge Control, and High or Low output Drive Strength. When LOW/HIGH, the outputs are synchronized with the negative/positive edge of the reference clock respectively. When at MID level, the output (See Datasheet)", 5 VDDQ4 (power) "Power supply for Bank 4 output buffers (see Table 7 on page 5 for supply level", 6 4Q1 (out) "Four banks of two outputs (see Table 1, Table 2, and Table 3 on page 5)", 7 4Q0 (out) "Four banks of two outputs (see Table 1, Table 2, and Table 3 on page 5)", 8 VSS (power) "Ground", 9 VSS (power) "Ground", 10 3Q1 (out) "Four banks of two outputs (see Table 1, Table 2, and Table 3 on page 5)", 11 3Q0 (out) "Four banks of two outputs (see Table 1, Table 2, and Table 3 on page 5)", 12 VDDQ3 (power) "Power supply for Bank 3 output buffers (see Table 7 on page 5 for supply level constraints).", 13 FB (in) "Feedback input.", 14 VDD (power) "Power supply for internal circuitry (see Table 7 on page 5 for supply level constraints).", 15 2Q1 (out) "Four banks of two outputs (see Table 1, Table 2, and Table 3 on page 5)", 16 2Q0 (out) "Four banks of two outputs (see Table 1, Table 2, and Table 3 on page 5)", 17 VSS (power) "Ground", 18 VSS (power) "Ground", 19 1Q1 (out) "Four banks of two outputs (see Table 1, Table 2, and Table 3 on page 5)", 20 1Q0 (out) "Four banks of two outputs (see Table 1, Table 2, and Table 3 on page 5)", 21 VDDQ1 (power) "Power supply for Bank 1 and Bank 2 output buffers (see Table 7 on page 5 for supply level constraints).", 22 SOE# (in) "Synchronous output enable. When HIGH, it stops clock outputs (except 2Q0 and 2Q1) in a Low state (for PE = H or M) - 2Q0, and 2Q1 may be used as the feedback signal to maintain phase lock. When test is held at MID level and (See Datasheet)", 23 1F0 (in) "Select frequency and phase of the outputs (see Table 1, Table 2, Table 3 on page 5, Table 4 on page 5, and Table 5 on page 5).", 24 1F1 (in) "Select frequency and phase of the outputs (see Table 1, Table 2, Table 3 on page 5, Table 4 on page 5, and Table 5 on page 5).", 25 2F0 (in) "Select frequency and phase of the outputs (see Table 1, Table 2, Table 3 on page 5, Table 4 on page 5, and Table 5 on page 5).", 26 2F1 (in) "Select frequency and phase of the outputs (see Table 1, Table 2, Table 3 on page 5, Table 4 on page 5, and Table 5 on page 5).", 27 TEST (in) "When MID or HIGH, disables PLL[2]. REF goes to outputs of Bank 1 and Bank 2. REF also goes to outputs of Bank 3 and Bank 4 through output dividers K and M. Set LOW for normal operation.", 28 VSS (power) "Ground", 29 REF (in) "Reference clock input", 30 VDD (power) "Power supply for internal circuitry (see Table 7 on page 5 for supply level constraints).", 31 FS (in) "Selects VCO operating frequency range (see Table 4 on page 5)", 32 3F0 (in) "Select frequency and phase of the outputs (see Table 1, Table 2, Table 3 on page 5, Table 4 on page 5, and Table 5 on page 5)."

## CY7B9950AXIT
designator U?
High-Speed Multi-Phase PLL Clock Buffer, 2.5 / 3.3 V, 8 Outputs, 6 to 200 MHz, -40 to 85 degC, 32-Pin TQFP (AX32), Tape and Reel; Manufacturer: Cypress; PartNumber: CY7B9950AXIT; Input Frequency Max. (MHz): 200; Input Frequency Min. (MHz): 6; Max. Operating Voltage (V): 3.63; Min. Operating Voltage (V): 2.375; No. of Outputs: 8; DatasheetVersion: Rev. *G; PackageVersion: Rev. *D, 07/2011; PackageReference: AX32; PackageDescription: 32-Pin Thin Plastic Quad Flatpack, Body 7 x 7 mm, Pitch 0.8 mm; Supplier 1: Digi-Key; Supplier Part Number 1: CY7B9950AXIT-ND; Supplier 2: Mouser; Supplier Part Number 2: 727-CY7B9950AXIT; Max. Operating Temp. (degreesC): 85; Min. Operating Temp. (degreesC): -40; Output Frequency Max. (MHz): 200; Output Frequency Min. (MHz): 6; Packing: Tape and Reel; RoHS: Pb-Free; Mounting Technology: Surface Mount; ComponentLink1Description: Manufacturer URL; ComponentLink1URL: http://www.cypress.com/; ComponentLink2Description: Datasheet; ComponentLink2URL: http://www.cypress.com/?docID=46780; ComponentLink3Description: Package Specification; ComponentLink3URL: http://www.cypress.com/?docID=39155
footprint CYP-AX32-51-85063_N (QFP, 32-Leads, Body 7x7mm, Pitch 0.8mm, IPC Medium Density)
footprint CYP-AX32-51-85063_L (QFP, 32-Leads, Body 7x7mm, Pitch 0.8mm, IPC High Density)
footprint CYP-AX32-51-85063_M (QFP, 32-Leads, Body 7x7mm, Pitch 0.8mm, IPC Low Density)
pins: 1 3F1 (in) "Select frequency and phase of the outputs (see Table 1, Table 2, Table 3 on page 5, Table 4 on page 5, and Table 5 on page 5).", 2 4F0 (in) "Select frequency and phase of the outputs (see Table 1, Table 2, Table 3 on page 5, Table 4 on page 5, and Table 5 on page 5).", 3 4F1 (in) "Select frequency and phase of the outputs (see Table 1, Table 2, Table 3 on page 5, Table 4 on page 5, and Table 5 on page 5).", 4 PE/HD (in) "Selects Positive or Negative Edge Control, and High or Low output Drive Strength. When LOW/HIGH, the outputs are synchronized with the negative/positive edge of the reference clock respectively. When at MID level, the output (See Datasheet)", 5 VDDQ4 (power) "Power supply for Bank 4 output buffers (see Table 7 on page 5 for supply level", 6 4Q1 (out) "Four banks of two outputs (see Table 1, Table 2, and Table 3 on page 5)", 7 4Q0 (out) "Four banks of two outputs (see Table 1, Table 2, and Table 3 on page 5)", 8 VSS (power) "Ground", 9 VSS (power) "Ground", 10 3Q1 (out) "Four banks of two outputs (see Table 1, Table 2, and Table 3 on page 5)", 11 3Q0 (out) "Four banks of two outputs (see Table 1, Table 2, and Table 3 on page 5)", 12 VDDQ3 (power) "Power supply for Bank 3 output buffers (see Table 7 on page 5 for supply level constraints).", 13 FB (in) "Feedback input.", 14 VDD (power) "Power supply for internal circuitry (see Table 7 on page 5 for supply level constraints).", 15 2Q1 (out) "Four banks of two outputs (see Table 1, Table 2, and Table 3 on page 5)", 16 2Q0 (out) "Four banks of two outputs (see Table 1, Table 2, and Table 3 on page 5)", 17 VSS (power) "Ground", 18 VSS (power) "Ground", 19 1Q1 (out) "Four banks of two outputs (see Table 1, Table 2, and Table 3 on page 5)", 20 1Q0 (out) "Four banks of two outputs (see Table 1, Table 2, and Table 3 on page 5)", 21 VDDQ1 (power) "Power supply for Bank 1 and Bank 2 output buffers (see Table 7 on page 5 for supply level constraints).", 22 SOE# (in) "Synchronous output enable. When HIGH, it stops clock outputs (except 2Q0 and 2Q1) in a Low state (for PE = H or M) - 2Q0, and 2Q1 may be used as the feedback signal to maintain phase lock. When test is held at MID level and (See Datasheet)", 23 1F0 (in) "Select frequency and phase of the outputs (see Table 1, Table 2, Table 3 on page 5, Table 4 on page 5, and Table 5 on page 5).", 24 1F1 (in) "Select frequency and phase of the outputs (see Table 1, Table 2, Table 3 on page 5, Table 4 on page 5, and Table 5 on page 5).", 25 2F0 (in) "Select frequency and phase of the outputs (see Table 1, Table 2, Table 3 on page 5, Table 4 on page 5, and Table 5 on page 5).", 26 2F1 (in) "Select frequency and phase of the outputs (see Table 1, Table 2, Table 3 on page 5, Table 4 on page 5, and Table 5 on page 5).", 27 TEST (in) "When MID or HIGH, disables PLL[2]. REF goes to outputs of Bank 1 and Bank 2. REF also goes to outputs of Bank 3 and Bank 4 through output dividers K and M. Set LOW for normal operation.", 28 VSS (power) "Ground", 29 REF (in) "Reference clock input", 30 VDD (power) "Power supply for internal circuitry (see Table 7 on page 5 for supply level constraints).", 31 FS (in) "Selects VCO operating frequency range (see Table 4 on page 5)", 32 3F0 (in) "Select frequency and phase of the outputs (see Table 1, Table 2, Table 3 on page 5, Table 4 on page 5, and Table 5 on page 5)."

## CY23EP05SXC-1
designator U?
Zero Delay Buffer, 2.5 / 3.3 V, 5 Outputs, 10 to 220 MHz, 0 to 70 degC, 8-Pin SOIC (SX8), Tube; Manufacturer: Cypress; PartNumber: CY23EP05SXC-1; Input Frequency Max. (MHz): 220; Input Frequency Min. (MHz): 10; Max. Operating Voltage (V): 3.6; Min. Operating Voltage (V): 2.3; No. of Outputs: 5; DatasheetVersion: Rev. *C; PackageVersion: Rev. *E, 06/2011; PackageReference: SX8; PackageDescription: 8-pin Lead SOIC-S08, Body 4.89 x 3.90 mm,Pitch 1.27 mm; Supplier 1: Digi-Key; Supplier Part Number 1: CY23EP05SXC-1-ND; Supplier 2: Farnell; Supplier Part Number 2: 1876345; Supplier 3: Newark; Supplier Part Number 3: 19M5921; Supplier 4: Mouser; Supplier Part Number 4: 727-CY23EP05SXC-1; Max. Operating Temp. (degreesC): 70; Min. Operating Temp. (degreesC): 0; Output Frequency Max. (MHz): 220; Output Frequency Min. (MHz): 10; Packing: Tube; RoHS: Pb-Free; Mounting Technology: Surface Mount; Code_JEDEC: MS-012; ComponentLink1Description: Manufacturer URL; ComponentLink1URL: http://www.cypress.com/; ComponentLink2Description: Datasheet; ComponentLink2URL: http://www.cypress.com/?docID=29615; ComponentLink3Description: Package Specification; ComponentLink3URL: http://www.cypress.com/?docID=39153
footprint CYP-SX8_N (SOIC, 8-Leads, Body 4.89x3.90mm, Pitch 1.27mm, IPC Medium Density)
footprint CYP-SX8_L (SOIC, 8-Leads, Body 4.89x3.90mm, Pitch 1.27mm, IPC High Density)
footprint CYP-SX8_M (SOIC, 8-Leads, Body 4.89x3.90mm, Pitch 1.27mm, IPC Low Density)
pins: 1 REF (in) "Input reference frequency", 2 CLK2 (hiz) "Buffered clock output", 3 CLK1 (hiz) "Buffered clock output", 4 GND (power) "Ground", 5 CLK3 (hiz) "Buffered clock output", 6 VDD (power) "3.3 V or 2.5 V supply", 7 CLK4 (hiz) "Buffered clock output", 8 CLKOUT (hiz) "Buffered clock output, internal feedback on this pin"

## CY23EP05SXC-1H
designator U?
Zero Delay Buffer, 2.5 / 3.3 V, 5 Outputs, 10 to 220 MHz, 0 to 70 degC, 8-Pin SOIC (SX8), Tube; Manufacturer: Cypress; PartNumber: CY23EP05SXC-1H; Input Frequency Max. (MHz): 220; Input Frequency Min. (MHz): 10; Max. Operating Voltage (V): 3.6; Min. Operating Voltage (V): 2.3; No. of Outputs: 5; DatasheetVersion: Rev. *C; PackageVersion: Rev. *E, 06/2011; PackageReference: SX8; PackageDescription: 8-pin Lead SOIC-S08, Body 4.89 x 3.90 mm,Pitch 1.27 mm; Supplier 1: Digi-Key; Supplier Part Number 1: 428-2211-5-ND; Supplier 2: Farnell; Supplier Part Number 2: 1837336; Supplier 3: Newark; Supplier Part Number 3: 19M5922; Supplier 4: Mouser; Supplier Part Number 4: 727-CY23EP05SXC-1H; Max. Operating Temp. (degreesC): 70; Min. Operating Temp. (degreesC): 0; Output Frequency Max. (MHz): 220; Output Frequency Min. (MHz): 10; Packing: Tube; RoHS: Pb-Free; Mounting Technology: Surface Mount; Code_JEDEC: MS-012; ComponentLink1Description: Manufacturer URL; ComponentLink1URL: http://www.cypress.com/; ComponentLink2Description: Datasheet; ComponentLink2URL: http://www.cypress.com/?docID=29615; ComponentLink3Description: Package Specification; ComponentLink3URL: http://www.cypress.com/?docID=39153
footprint CYP-SX8_N (SOIC, 8-Leads, Body 4.89x3.90mm, Pitch 1.27mm, IPC Medium Density)
footprint CYP-SX8_L (SOIC, 8-Leads, Body 4.89x3.90mm, Pitch 1.27mm, IPC High Density)
footprint CYP-SX8_M (SOIC, 8-Leads, Body 4.89x3.90mm, Pitch 1.27mm, IPC Low Density)
pins: 1 REF (in) "Input reference frequency", 2 CLK2 (hiz) "Buffered clock output", 3 CLK1 (hiz) "Buffered clock output", 4 GND (power) "Ground", 5 CLK3 (hiz) "Buffered clock output", 6 VDD (power) "3.3 V or 2.5 V supply", 7 CLK4 (hiz) "Buffered clock output", 8 CLKOUT (hiz) "Buffered clock output, internal feedback on this pin"